# Altium integrated library ICM-20608-G.IntLib: 1 symbol
Pins are listed as number, name and electrical type; pins without a type are passive.

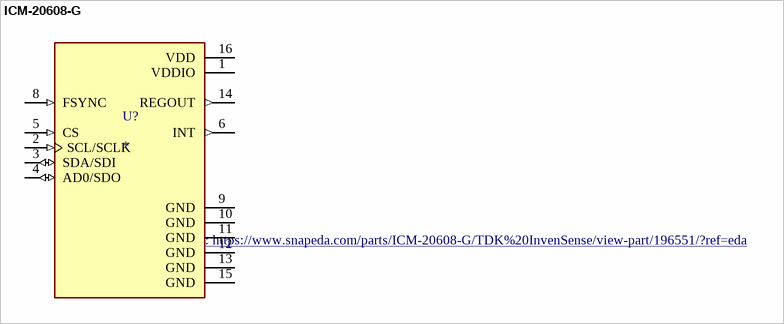
[diagram p0: symbol ICM-20608-G]

## ICM-20608-G
designator U?
Accelerometer, Gyroscope, 6 Axis Sensor IÂ²C, SPI Output; MF: TDK InvenSense; MP: ICM-20608-G; Package: LGA-16 InvenSense; Purchase-URL: https://pricing.snapeda.com/search/part/ICM-20608-G/?ref=eda; Value: *; Price: None; Availability: Good; SnapEDA_Link: https://www.snapeda.com/parts/ICM-20608-G/TDK%20InvenSense/view-part/196551/?ref=snap; Check_prices: https://www.snapeda.com/parts/ICM-20608-G/TDK%20InvenSense/view-part/196551/?ref=eda
footprint PQFN50P300X300X80-16N
pins: 1 VDDIO (power), 2 SCL/SCLK (in), 3 SDA/SDI (io), 4 AD0/SDO (io), 5 CS (in), 6 INT (out), 8 FSYNC (in), 9 GND (power), 10 GND (power), 11 GND (power), 12 GND (power), 13 GND (power), 14 REGOUT (out), 15 GND (power), 16 VDD (power)